# Altium integrated library TI Data Converters Analog to Digital Converter.IntLib: 2197 symbols (part 110 of 168)
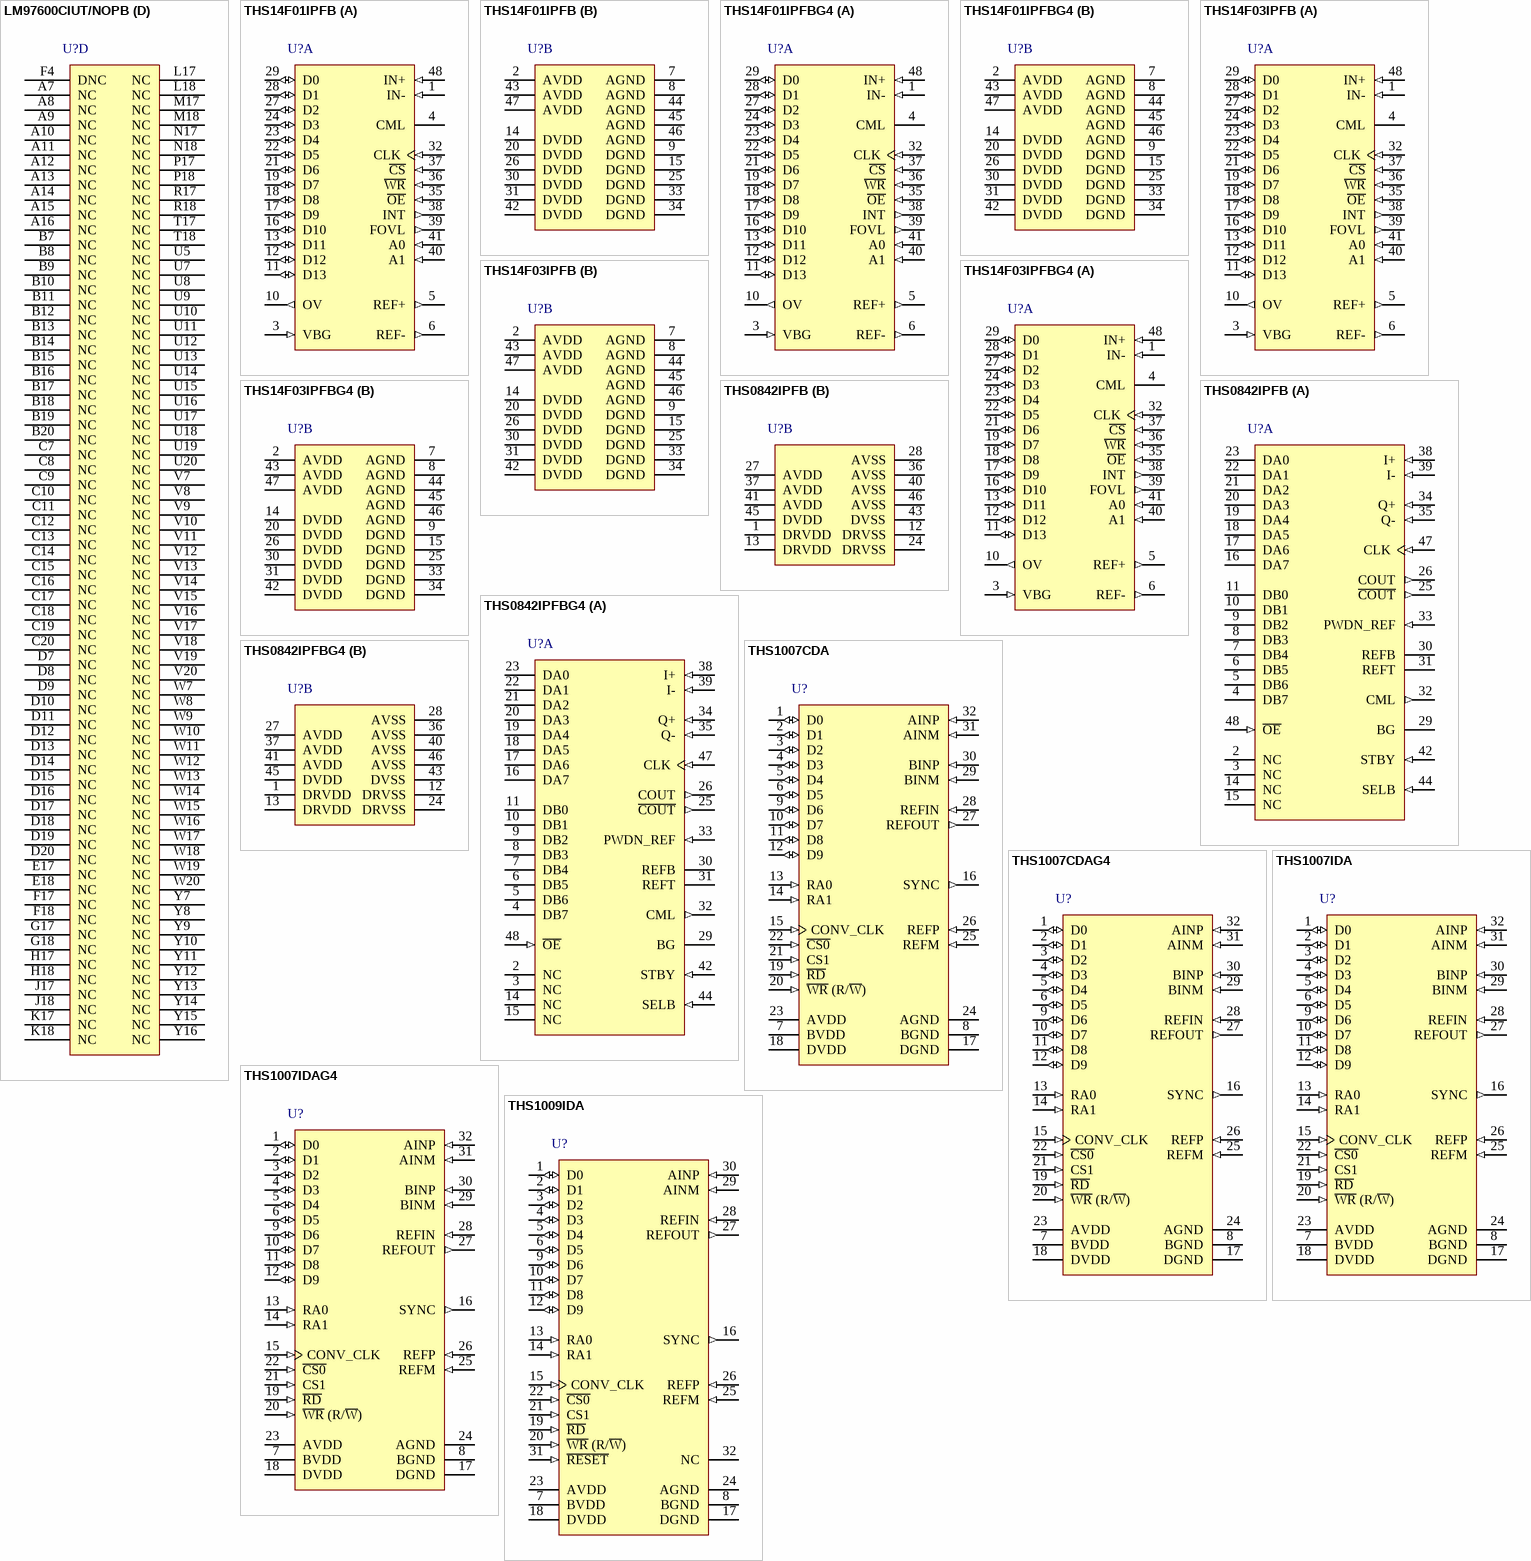
[diagram p235: symbols LM97600CIUT/NOPB to THS1009IDA]

## THS1009IDA
designator U?
10-Bit, 8 MSPS ADC Dual Channel, Parallel DSP / uP, Channel Autoscan, Low Power, -40 to 85 degC, 32-pin SOP (DA32), Green (RoHS & no Sb/Br); Manufacturer: Texas Instruments; PartNumber: THS1009IDA; # Input Channels: 2; Analog Voltage AV/DD(Max)(V): 5.25; Analog Voltage AV/DD(Min)(V): 4.75; Architecture: Pipeline; ENOB(Bits): 9.5; INL(Max)(+/-LSB): 1; Interface: Parallel CMOS; Resolution(Bits): 10; Sample Rate (max)(SPS): 6M; SFDR(dB): 65; SINAD(dB): 59; SNR(dB): 61; SubFamily: Precision ADC (<=10MSPS); DatasheetVersion: SLAS287A; PackageVersion: 4040066/F, 01/2009; PackageReference: DA32; PackageDescription: 32-Pin Plastic Small Outline, Body 11 x 6.1 mm, Pitch 0.65 mm; Supplier 1: Digi-Key; Supplier Part Number 1: ADS6224IRGZR-ND; Supplier 2: Mouser; Supplier Part Number 2: 595-ADS6224IRGZR; Digital Supply(Max)(V): 5.25; Digital Supply(Min)(V): 4.75; Eco-Plan: Green (RoHS & no Sb/Br); Mounting Technology: Surface Mount; Code_JEDEC: MO-225; ComponentLink1Description: Manufacturer URL; ComponentLink1URL: http://www.ti.com/; ComponentLink2Description: Datasheet; ComponentLink2URL: http://www.ti.com/general/docs/lit/getliterature.tsp?genericPartNumber=THS1009&fileType=pdf; ComponentLink3Description: Package Specification; ComponentLink3URL: http://www.ti.com/lit/ml/mtss002e/mtss002e.pdf
footprint TI-DA32_N (SOP, 32-Leads, Body 11x6.1mm, Pitch 0.65mm, IPC Medium Density)
footprint TI-DA32_L (SOP, 32-Leads, Body 11x6.1mm, Pitch 0.65mm, IPC High Density)
footprint TI-DA32_M (SOP, 32-Leads, Body 11x6.1mm, Pitch 0.65mm, IPC Low Density)
pins: 1 D0 (io) "Digital input, output; D0 = LSB", 2 D1 (io) "Digital input, output", 3 D2 (io) "Digital input, output", 4 D3 (io) "Digital input, output", 5 D4 (io) "Digital input, output", 6 D5 (io) "Digital input, output", 7 BVDD (power) "Digital supply voltage for buffer", 8 BGND (power) "Digital ground for buffer", 9 D6 (io) "Digital input, output", 10 D7 (io) "Digital input, output", 11 D8 (io) "Digital input, output", 12 D9 (io) "Digital input, output", 13 RA0 (in) "Digital input. RA0 is used as an address line for the control register. This is required for writing to control register 0 and control register 1.", 14 RA1 (in) "Digital input. RA1 is used as an address line for the control register. This is required for writing to control register 0 and control register 1.", 15 CONV_CLK (in) "Digital input. This input is used to apply an external conversion clock in the continuous conversion mode. In the single conversion mode, this input functions as the conversion start (C\O\N\V\S\T\) input. A high-to-low (See Datasheet)", 16 SYNC (out) "Synchronization output. This signal indicates in a multichannel operation that data of channel A is brought to the digital output and can therefore be used for synchronization.", 17 DGND (power) "Digital ground. Ground reference for digital circuitry.", 18 DVDD (power) "Digital supply voltage", 19 ~{RD} (in) "The R\D\ input is used only if the W\R\ input is configured as a write only input. In this case, it is a digital input, active low as a data read select from the processor. See timing section.", 20 ~{WR} (R/~{W}) (in) "This input is programmable. It functions as a read-write input R/W\ and can also be configured as a write-only input W\R\, which is active low and used as data write select from the processor. In this case, the R\D\ input is (See Datasheet)", 21 CS1 (in) "Chip select input (active high)", 22 ~{CS0} (in) "Chip select input (active low)", 23 AVDD (power) "Analog supply voltage", 24 AGND (power) "Analog ground", 25 REFM (in) "Reference input, requires a bypass capacitor of 10 uF to AGND in order to bypass the internal reference voltage. An external reference voltage at this input can be applied. This option can be programmed through control (See Datasheet)", 26 REFP (in) "Reference input, requires a bypass capacitor of 10 uF to AGND in order to bypass the internal reference voltage. An external reference voltage at this input can be applied. This option can be programmed through control (See Datasheet)", 27 REFOUT (out) "Analog fixed reference output voltage of 2.5 V. Sink and source capability of 250 uA. The reference output requires a capacitor of 10 uF to AGND for filtering and stability.", 28 REFIN (in) "Common-mode reference input for the analog input channels. It is recommended that this pin be connected to the reference output REFOUT.", 29 AINM (in) "Analog input, single-ended or negative input of differential channel A", 30 AINP (in) "Analog input, single-ended or positive input of differential channel A", 31 ~{RESET} (in) "Hardware reset of the THS10082. Sets the control register to default values.", 32 NC "Not connected"

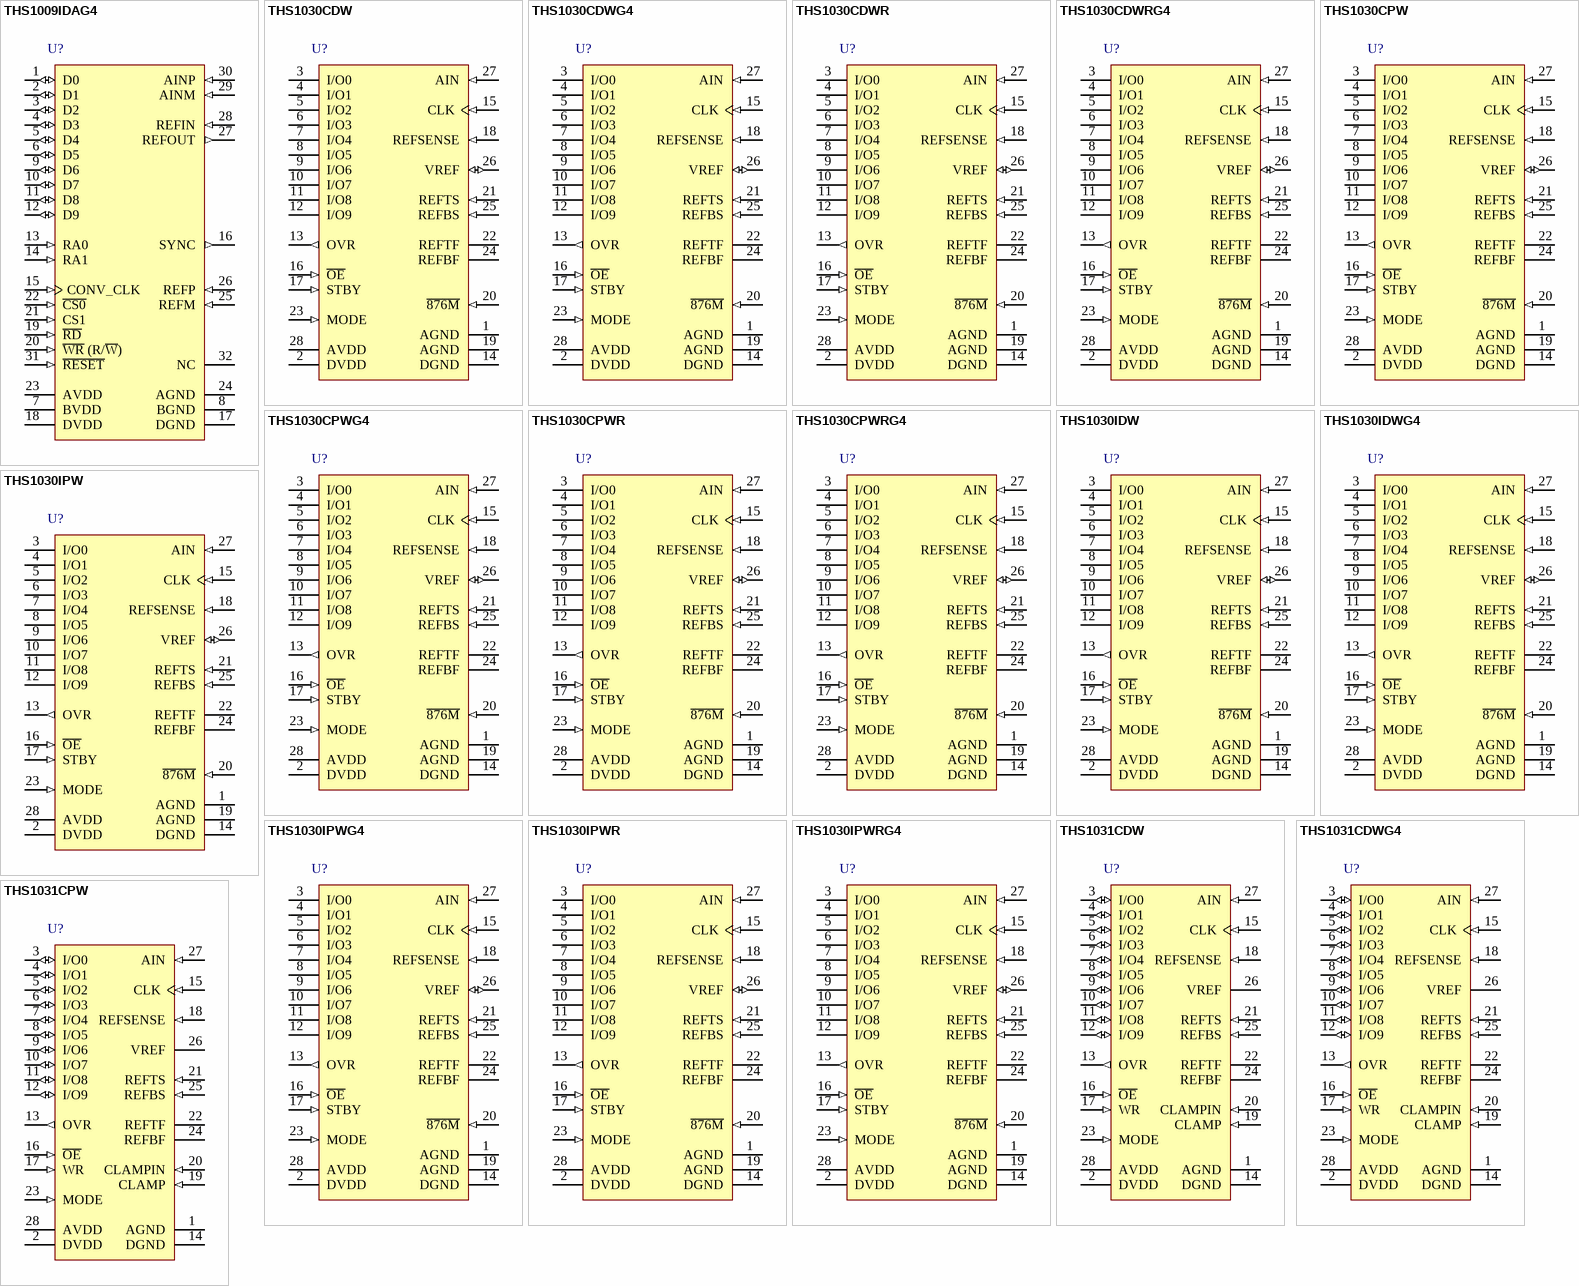
[diagram p94: symbols THS1009IDAG4 to THS1031CPW]

## THS1009IDAG4
designator U?
10-Bit, 8 MSPS ADC Dual Channel, Parallel DSP / uP, Channel Autoscan, Low Power, -40 to 85 degC, 32-pin SOP (DA32), Green (RoHS & no Sb/Br); Manufacturer: Texas Instruments; PartNumber: THS1009IDAG4; # Input Channels: 2; Analog Voltage AV/DD(Max)(V): 5.25; Analog Voltage AV/DD(Min)(V): 4.75; Architecture: Pipeline; ENOB(Bits): 9.5; INL(Max)(+/-LSB): 1; Interface: Parallel CMOS; Resolution(Bits): 10; Sample Rate (max)(SPS): 6M; SFDR(dB): 65; SINAD(dB): 59; SNR(dB): 61; SubFamily: Precision ADC (<=10MSPS); DatasheetVersion: SLAS287A; PackageVersion: 4040066/F, 01/2009; PackageReference: DA32; PackageDescription: 32-Pin Plastic Small Outline, Body 11 x 6.1 mm, Pitch 0.65 mm; Supplier 1: Digi-Key; Supplier Part Number 1: ADS6224IRGZRG4-ND; Supplier 2: Mouser; Supplier Part Number 2: 595-ADS6224IRGZRG4; Digital Supply(Max)(V): 5.25; Digital Supply(Min)(V): 4.75; Eco-Plan: Green (RoHS & no Sb/Br); Mounting Technology: Surface Mount; Code_JEDEC: MO-225; ComponentLink1Description: Manufacturer URL; ComponentLink1URL: http://www.ti.com/; ComponentLink2Description: Datasheet; ComponentLink2URL: http://www.ti.com/general/docs/lit/getliterature.tsp?genericPartNumber=THS1009&fileType=pdf; ComponentLink3Description: Package Specification; ComponentLink3URL: http://www.ti.com/lit/ml/mtss002e/mtss002e.pdf
footprint TI-DA32_N (SOP, 32-Leads, Body 11x6.1mm, Pitch 0.65mm, IPC Medium Density)
footprint TI-DA32_L (SOP, 32-Leads, Body 11x6.1mm, Pitch 0.65mm, IPC High Density)
footprint TI-DA32_M (SOP, 32-Leads, Body 11x6.1mm, Pitch 0.65mm, IPC Low Density)
pins: 1 D0 (io) "Digital input, output; D0 = LSB", 2 D1 (io) "Digital input, output", 3 D2 (io) "Digital input, output", 4 D3 (io) "Digital input, output", 5 D4 (io) "Digital input, output", 6 D5 (io) "Digital input, output", 7 BVDD (power) "Digital supply voltage for buffer", 8 BGND (power) "Digital ground for buffer", 9 D6 (io) "Digital input, output", 10 D7 (io) "Digital input, output", 11 D8 (io) "Digital input, output", 12 D9 (io) "Digital input, output", 13 RA0 (in) "Digital input. RA0 is used as an address line for the control register. This is required for writing to control register 0 and control register 1.", 14 RA1 (in) "Digital input. RA1 is used as an address line for the control register. This is required for writing to control register 0 and control register 1.", 15 CONV_CLK (in) "Digital input. This input is used to apply an external conversion clock in the continuous conversion mode. In the single conversion mode, this input functions as the conversion start (C\O\N\V\S\T\) input. A high-to-low (See Datasheet)", 16 SYNC (out) "Synchronization output. This signal indicates in a multichannel operation that data of channel A is brought to the digital output and can therefore be used for synchronization.", 17 DGND (power) "Digital ground. Ground reference for digital circuitry.", 18 DVDD (power) "Digital supply voltage", 19 ~{RD} (in) "The R\D\ input is used only if the W\R\ input is configured as a write only input. In this case, it is a digital input, active low as a data read select from the processor. See timing section.", 20 ~{WR} (R/~{W}) (in) "This input is programmable. It functions as a read-write input R/W\ and can also be configured as a write-only input W\R\, which is active low and used as data write select from the processor. In this case, the R\D\ input is (See Datasheet)", 21 CS1 (in) "Chip select input (active high)", 22 ~{CS0} (in) "Chip select input (active low)", 23 AVDD (power) "Analog supply voltage", 24 AGND (power) "Analog ground", 25 REFM (in) "Reference input, requires a bypass capacitor of 10 uF to AGND in order to bypass the internal reference voltage. An external reference voltage at this input can be applied. This option can be programmed through control (See Datasheet)", 26 REFP (in) "Reference input, requires a bypass capacitor of 10 uF to AGND in order to bypass the internal reference voltage. An external reference voltage at this input can be applied. This option can be programmed through control (See Datasheet)", 27 REFOUT (out) "Analog fixed reference output voltage of 2.5 V. Sink and source capability of 250 uA. The reference output requires a capacitor of 10 uF to AGND for filtering and stability.", 28 REFIN (in) "Common-mode reference input for the analog input channels. It is recommended that this pin be connected to the reference output REFOUT.", 29 AINM (in) "Analog input, single-ended or negative input of differential channel A", 30 AINP (in) "Analog input, single-ended or positive input of differential channel A", 31 ~{RESET} (in) "Hardware reset of the THS10082. Sets the control register to default values.", 32 NC "Not connected"

## THS1030CDW
designator U?
10-Bit, 30 MSPS ADC Single Channel, Pin Compatible with TLC876, Out of Range Indicator, Power Down, 0 to 70 degC, 28-pin SOIC (DW28), Green (RoHS & no Sb/Br); Manufacturer: Texas Instruments; PartNumber: THS1030CDW; # Input Channels: 1; Analog Voltage AV/DD(Max)(V): 5.5; Analog Voltage AV/DD(Min)(V): 3; Architecture: Pipeline; ENOB(Bits): 7.7; INL(Max)(+/-LSB): 2; Interface: Parallel CMOS; Resolution(Bits): 10; Sample Rate (max)(SPS): 30M; SFDR(dB): 53; SINAD(dB): 48.1; SNR(dB): 49.4; SubFamily: High Speed ADC (>10MSPS); DatasheetVersion: SLAS243E; PackageVersion: 4040000-6/G, 01/2011; PackageReference: DW28; PackageDescription: 28-Pin Plastic Small Outline, Body 17.90 x 7.50 mm, Pitch 1.27 mm; Supplier 1: Digi-Key; Supplier Part Number 1: 296-22666-2-ND; Supplier 2: Digi-Key; Supplier Part Number 2: 296-22666-1-ND; Supplier 3: Farnell; Supplier Part Number 3: 1754718; Supplier 4: Newark; Supplier Part Number 4: 93R5056; Supplier 5: Mouser; Supplier Part Number 5: 595-ADS6224IRGZT; Digital Supply(Max)(V): 5.5; Digital Supply(Min)(V): 3; Eco-Plan: Green (RoHS & no Sb/Br); Mounting Technology: Surface Mount; Code_JEDEC: MS-013; ComponentLink1Description: Manufacturer URL; ComponentLink1URL: http://www.ti.com/; ComponentLink2Description: Datasheet; ComponentLink2URL: http://www.ti.com/general/docs/lit/getliterature.tsp?genericPartNumber=THS1030&fileType=pdf; ComponentLink3Description: Package Specification; ComponentLink3URL: http://www.ti.com/lit/ml/mpds175a/mpds175a.pdf
footprint TI-DW28_N (SOIC, 28-Leads, Body 17.9x7.5mm, Pitch 1.27mm, IPC Medium Density)
footprint TI-DW28_L (SOIC, 28-Leads, Body 17.9x7.5mm, Pitch 1.27mm, IPC High Density)
footprint TI-DW28_M (SOIC, 28-Leads, Body 17.9x7.5mm, Pitch 1.27mm, IPC Low Density)
pins: 1 AGND (power) "Analog ground", 2 DVDD (power) "Digital driver supply", 3 I/O0 (hiz) "Digital I/O bit 0 (LSB)", 4 I/O1 (hiz) "Digital I/O bit 1", 5 I/O2 (hiz) "Digital I/O bit 2", 6 I/O3 (hiz) "Digital I/O bit 3", 7 I/O4 (hiz) "Digital I/O bit 4", 8 I/O5 (hiz) "Digital I/O bit 5", 9 I/O6 (hiz) "Digital I/O bit 6", 10 I/O7 (hiz) "Digital I/O bit 7", 11 I/O8 (hiz) "Digital I/O bit 8", 12 I/O9 (hiz) "Digital I/O bit 9 (MSB)", 13 OVR (out) "Out-of-range indicator", 14 DGND (power) "Digital ground", 15 CLK (in) "Clock input", 16 ~{OE} (in) "High to 3-state the data bus, low to enable the data bus", 17 STBY (in) "High = power-down mode, low = normal operation mode", 18 REFSENSE (in) "Reference sense", 19 AGND (power) "Analog ground", 20 ~{876M} (in) "High = THS1030 mode, low = TLC876 mode (see section 4 for TLC876 mode)", 21 REFTS (in) "Reference top sense", 22 REFTF "Reference top decoupling", 23 MODE (in) "Mode input", 24 REFBF "Reference bottom decoupling", 25 REFBS (in) "Reference bottom sense", 26 VREF (io) "Internal and external reference", 27 AIN (in) "Analog input", 28 AVDD (power) "Analog supply"

## THS1030CDWG4
designator U?
10-Bit, 30 MSPS ADC Single Channel, Pin Compatible with TLC876, Out of Range Indicator, Power Down, 0 to 70 degC, 28-pin SOIC (DW28), Green (RoHS & no Sb/Br); Manufacturer: Texas Instruments; PartNumber: THS1030CDWG4; # Input Channels: 1; Analog Voltage AV/DD(Max)(V): 5.5; Analog Voltage AV/DD(Min)(V): 3; Architecture: Pipeline; ENOB(Bits): 7.7; INL(Max)(+/-LSB): 2; Interface: Parallel CMOS; Resolution(Bits): 10; Sample Rate (max)(SPS): 30M; SFDR(dB): 53; SINAD(dB): 48.1; SNR(dB): 49.4; SubFamily: High Speed ADC (>10MSPS); DatasheetVersion: SLAS243E; PackageVersion: 4040000-6/G, 01/2011; PackageReference: DW28; PackageDescription: 28-Pin Plastic Small Outline, Body 17.90 x 7.50 mm, Pitch 1.27 mm; Supplier 1: Digi-Key; Supplier Part Number 1: ADS6224IRGZTG4-ND; Supplier 2: Mouser; Supplier Part Number 2: 595-ADS6224IRGZTG4; Digital Supply(Max)(V): 5.5; Digital Supply(Min)(V): 3; Eco-Plan: Green (RoHS & no Sb/Br); Mounting Technology: Surface Mount; Code_JEDEC: MS-013; ComponentLink1Description: Manufacturer URL; ComponentLink1URL: http://www.ti.com/; ComponentLink2Description: Datasheet; ComponentLink2URL: http://www.ti.com/general/docs/lit/getliterature.tsp?genericPartNumber=THS1030&fileType=pdf; ComponentLink3Description: Package Specification; ComponentLink3URL: http://www.ti.com/lit/ml/mpds175a/mpds175a.pdf
footprint TI-DW28_N (SOIC, 28-Leads, Body 17.9x7.5mm, Pitch 1.27mm, IPC Medium Density)
footprint TI-DW28_L (SOIC, 28-Leads, Body 17.9x7.5mm, Pitch 1.27mm, IPC High Density)
footprint TI-DW28_M (SOIC, 28-Leads, Body 17.9x7.5mm, Pitch 1.27mm, IPC Low Density)
pins: 1 AGND (power) "Analog ground", 2 DVDD (power) "Digital driver supply", 3 I/O0 (hiz) "Digital I/O bit 0 (LSB)", 4 I/O1 (hiz) "Digital I/O bit 1", 5 I/O2 (hiz) "Digital I/O bit 2", 6 I/O3 (hiz) "Digital I/O bit 3", 7 I/O4 (hiz) "Digital I/O bit 4", 8 I/O5 (hiz) "Digital I/O bit 5", 9 I/O6 (hiz) "Digital I/O bit 6", 10 I/O7 (hiz) "Digital I/O bit 7", 11 I/O8 (hiz) "Digital I/O bit 8", 12 I/O9 (hiz) "Digital I/O bit 9 (MSB)", 13 OVR (out) "Out-of-range indicator", 14 DGND (power) "Digital ground", 15 CLK (in) "Clock input", 16 ~{OE} (in) "High to 3-state the data bus, low to enable the data bus", 17 STBY (in) "High = power-down mode, low = normal operation mode", 18 REFSENSE (in) "Reference sense", 19 AGND (power) "Analog ground", 20 ~{876M} (in) "High = THS1030 mode, low = TLC876 mode (see section 4 for TLC876 mode)", 21 REFTS (in) "Reference top sense", 22 REFTF "Reference top decoupling", 23 MODE (in) "Mode input", 24 REFBF "Reference bottom decoupling", 25 REFBS (in) "Reference bottom sense", 26 VREF (io) "Internal and external reference", 27 AIN (in) "Analog input", 28 AVDD (power) "Analog supply"

## THS1030CDWR
designator U?
10-Bit, 30 MSPS ADC Single Channel, Pin Compatible with TLC876, Out of Range Indicator, Power Down, 0 to 70 degC, 28-pin SOIC (DW28), Green (RoHS & no Sb/Br); Manufacturer: Texas Instruments; PartNumber: THS1030CDWR; # Input Channels: 1; Analog Voltage AV/DD(Max)(V): 5.5; Analog Voltage AV/DD(Min)(V): 3; Architecture: Pipeline; ENOB(Bits): 7.7; INL(Max)(+/-LSB): 2; Interface: Parallel CMOS; Resolution(Bits): 10; Sample Rate (max)(SPS): 30M; SFDR(dB): 53; SINAD(dB): 48.1; SNR(dB): 49.4; SubFamily: High Speed ADC (>10MSPS); DatasheetVersion: SLAS243E; PackageVersion: 4040000-6/G, 01/2011; PackageReference: DW28; PackageDescription: 28-Pin Plastic Small Outline, Body 17.90 x 7.50 mm, Pitch 1.27 mm; Supplier 1: Digi-Key; Supplier Part Number 1: ADS6223IRGZ25-ND; Supplier 2: Mouser; Supplier Part Number 2: 595-ADS6223IRGZ25; Digital Supply(Max)(V): 5.5; Digital Supply(Min)(V): 3; Eco-Plan: Green (RoHS & no Sb/Br); Mounting Technology: Surface Mount; Code_JEDEC: MS-013; ComponentLink1Description: Manufacturer URL; ComponentLink1URL: http://www.ti.com/; ComponentLink2Description: Datasheet; ComponentLink2URL: http://www.ti.com/general/docs/lit/getliterature.tsp?genericPartNumber=THS1030&fileType=pdf; ComponentLink3Description: Package Specification; ComponentLink3URL: http://www.ti.com/lit/ml/mpds175a/mpds175a.pdf
footprint TI-DW28_N (SOIC, 28-Leads, Body 17.9x7.5mm, Pitch 1.27mm, IPC Medium Density)
footprint TI-DW28_L (SOIC, 28-Leads, Body 17.9x7.5mm, Pitch 1.27mm, IPC High Density)
footprint TI-DW28_M (SOIC, 28-Leads, Body 17.9x7.5mm, Pitch 1.27mm, IPC Low Density)
pins: 1 AGND (power) "Analog ground", 2 DVDD (power) "Digital driver supply", 3 I/O0 (hiz) "Digital I/O bit 0 (LSB)", 4 I/O1 (hiz) "Digital I/O bit 1", 5 I/O2 (hiz) "Digital I/O bit 2", 6 I/O3 (hiz) "Digital I/O bit 3", 7 I/O4 (hiz) "Digital I/O bit 4", 8 I/O5 (hiz) "Digital I/O bit 5", 9 I/O6 (hiz) "Digital I/O bit 6", 10 I/O7 (hiz) "Digital I/O bit 7", 11 I/O8 (hiz) "Digital I/O bit 8", 12 I/O9 (hiz) "Digital I/O bit 9 (MSB)", 13 OVR (out) "Out-of-range indicator", 14 DGND (power) "Digital ground", 15 CLK (in) "Clock input", 16 ~{OE} (in) "High to 3-state the data bus, low to enable the data bus", 17 STBY (in) "High = power-down mode, low = normal operation mode", 18 REFSENSE (in) "Reference sense", 19 AGND (power) "Analog ground", 20 ~{876M} (in) "High = THS1030 mode, low = TLC876 mode (see section 4 for TLC876 mode)", 21 REFTS (in) "Reference top sense", 22 REFTF "Reference top decoupling", 23 MODE (in) "Mode input", 24 REFBF "Reference bottom decoupling", 25 REFBS (in) "Reference bottom sense", 26 VREF (io) "Internal and external reference", 27 AIN (in) "Analog input", 28 AVDD (power) "Analog supply"

## THS1030CDWRG4
designator U?
10-Bit, 30 MSPS ADC Single Channel, Pin Compatible with TLC876, Out of Range Indicator, Power Down, 0 to 70 degC, 28-pin SOIC (DW28), Green (RoHS & no Sb/Br); Manufacturer: Texas Instruments; PartNumber: THS1030CDWRG4; # Input Channels: 1; Analog Voltage AV/DD(Max)(V): 5.5; Analog Voltage AV/DD(Min)(V): 3; Architecture: Pipeline; ENOB(Bits): 7.7; INL(Max)(+/-LSB): 2; Interface: Parallel CMOS; Resolution(Bits): 10; Sample Rate (max)(SPS): 30M; SFDR(dB): 53; SINAD(dB): 48.1; SNR(dB): 49.4; SubFamily: High Speed ADC (>10MSPS); DatasheetVersion: SLAS243E; PackageVersion: 4040000-6/G, 01/2011; PackageReference: DW28; PackageDescription: 28-Pin Plastic Small Outline, Body 17.90 x 7.50 mm, Pitch 1.27 mm; Supplier 1: Digi-Key; Supplier Part Number 1: ADS6223IRGZR-ND; Supplier 2: Mouser; Supplier Part Number 2: 595-ADS6223IRGZR; Digital Supply(Max)(V): 5.5; Digital Supply(Min)(V): 3; Eco-Plan: Green (RoHS & no Sb/Br); Mounting Technology: Surface Mount; Code_JEDEC: MS-013; ComponentLink1Description: Manufacturer URL; ComponentLink1URL: http://www.ti.com/; ComponentLink2Description: Datasheet; ComponentLink2URL: http://www.ti.com/general/docs/lit/getliterature.tsp?genericPartNumber=THS1030&fileType=pdf; ComponentLink3Description: Package Specification; ComponentLink3URL: http://www.ti.com/lit/ml/mpds175a/mpds175a.pdf
footprint TI-DW28_N (SOIC, 28-Leads, Body 17.9x7.5mm, Pitch 1.27mm, IPC Medium Density)
footprint TI-DW28_L (SOIC, 28-Leads, Body 17.9x7.5mm, Pitch 1.27mm, IPC High Density)
footprint TI-DW28_M (SOIC, 28-Leads, Body 17.9x7.5mm, Pitch 1.27mm, IPC Low Density)
pins: 1 AGND (power) "Analog ground", 2 DVDD (power) "Digital driver supply", 3 I/O0 (hiz) "Digital I/O bit 0 (LSB)", 4 I/O1 (hiz) "Digital I/O bit 1", 5 I/O2 (hiz) "Digital I/O bit 2", 6 I/O3 (hiz) "Digital I/O bit 3", 7 I/O4 (hiz) "Digital I/O bit 4", 8 I/O5 (hiz) "Digital I/O bit 5", 9 I/O6 (hiz) "Digital I/O bit 6", 10 I/O7 (hiz) "Digital I/O bit 7", 11 I/O8 (hiz) "Digital I/O bit 8", 12 I/O9 (hiz) "Digital I/O bit 9 (MSB)", 13 OVR (out) "Out-of-range indicator", 14 DGND (power) "Digital ground", 15 CLK (in) "Clock input", 16 ~{OE} (in) "High to 3-state the data bus, low to enable the data bus", 17 STBY (in) "High = power-down mode, low = normal operation mode", 18 REFSENSE (in) "Reference sense", 19 AGND (power) "Analog ground", 20 ~{876M} (in) "High = THS1030 mode, low = TLC876 mode (see section 4 for TLC876 mode)", 21 REFTS (in) "Reference top sense", 22 REFTF "Reference top decoupling", 23 MODE (in) "Mode input", 24 REFBF "Reference bottom decoupling", 25 REFBS (in) "Reference bottom sense", 26 VREF (io) "Internal and external reference", 27 AIN (in) "Analog input", 28 AVDD (power) "Analog supply"

## THS1030CPW
designator U?
10-Bit, 30 MSPS ADC Single Channel, Pin Compatible with TLC876, Out of Range Indicator, Power Down, 0 to 70 degC, 28-pin SOP (PW28), Green (RoHS & no Sb/Br); Manufacturer: Texas Instruments; PartNumber: THS1030CPW; # Input Channels: 1; Analog Voltage AV/DD(Max)(V): 5.5; Analog Voltage AV/DD(Min)(V): 3; Architecture: Pipeline; ENOB(Bits): 7.7; INL(Max)(+/-LSB): 2; Interface: Parallel CMOS; Resolution(Bits): 10; Sample Rate (max)(SPS): 30M; SFDR(dB): 53; SINAD(dB): 48.1; SNR(dB): 49.4; SubFamily: High Speed ADC (>10MSPS); DatasheetVersion: SLAS243E; PackageVersion: 4040064-7/G, 02/2011; PackageReference: PW28; PackageDescription: 28-Pin Plastic Small Outline, Body 9.7 x 4.4 mm, Pitch 0.65 mm; Supplier 1: Digi-Key; Supplier Part Number 1: ADS6223IRGZRG4-ND; Supplier 2: Mouser; Supplier Part Number 2: 595-ADS6223IRGZRG4; Digital Supply(Max)(V): 5.5; Digital Supply(Min)(V): 3; Eco-Plan: Green (RoHS & no Sb/Br); Mounting Technology: Surface Mount; Code_JEDEC: MO-153; ComponentLink1Description: Manufacturer URL; ComponentLink1URL: http://www.ti.com/; ComponentLink2Description: Datasheet; ComponentLink2URL: http://www.ti.com/general/docs/lit/getliterature.tsp?genericPartNumber=THS1030&fileType=pdf; ComponentLink3Description: Package Specification; ComponentLink3URL: http://www.ti.com/litv/pdf/mpds364
footprint TI-PW28_N (SOP, 28-Leads, Body 9.7x4.4mm, Pitch 0.65mm, IPC Medium Density)
footprint TI-PW28_L (SOP, 28-Leads, Body 9.7x4.4mm, Pitch 0.65mm, IPC High Density)
footprint TI-PW28_M (SOP, 28-Leads, Body 9.7x4.4mm, Pitch 0.65mm, IPC Low Density)
pins: 1 AGND (power) "Analog ground", 2 DVDD (power) "Digital driver supply", 3 I/O0 (hiz) "Digital I/O bit 0 (LSB)", 4 I/O1 (hiz) "Digital I/O bit 1", 5 I/O2 (hiz) "Digital I/O bit 2", 6 I/O3 (hiz) "Digital I/O bit 3", 7 I/O4 (hiz) "Digital I/O bit 4", 8 I/O5 (hiz) "Digital I/O bit 5", 9 I/O6 (hiz) "Digital I/O bit 6", 10 I/O7 (hiz) "Digital I/O bit 7", 11 I/O8 (hiz) "Digital I/O bit 8", 12 I/O9 (hiz) "Digital I/O bit 9 (MSB)", 13 OVR (out) "Out-of-range indicator", 14 DGND (power) "Digital ground", 15 CLK (in) "Clock input", 16 ~{OE} (in) "High to 3-state the data bus, low to enable the data bus", 17 STBY (in) "High = power-down mode, low = normal operation mode", 18 REFSENSE (in) "Reference sense", 19 AGND (power) "Analog ground", 20 ~{876M} (in) "High = THS1030 mode, low = TLC876 mode (see section 4 for TLC876 mode)", 21 REFTS (in) "Reference top sense", 22 REFTF "Reference top decoupling", 23 MODE (in) "Mode input", 24 REFBF "Reference bottom decoupling", 25 REFBS (in) "Reference bottom sense", 26 VREF (io) "Internal and external reference", 27 AIN (in) "Analog input", 28 AVDD (power) "Analog supply"

## THS1030CPWG4
designator U?
10-Bit, 30 MSPS ADC Single Channel, Pin Compatible with TLC876, Out of Range Indicator, Power Down, 0 to 70 degC, 28-pin SOP (PW28), Green (RoHS & no Sb/Br); Manufacturer: Texas Instruments; PartNumber: THS1030CPWG4; # Input Channels: 1; Analog Voltage AV/DD(Max)(V): 5.5; Analog Voltage AV/DD(Min)(V): 3; Architecture: Pipeline; ENOB(Bits): 7.7; INL(Max)(+/-LSB): 2; Interface: Parallel CMOS; Resolution(Bits): 10; Sample Rate (max)(SPS): 30M; SFDR(dB): 53; SINAD(dB): 48.1; SNR(dB): 49.4; SubFamily: High Speed ADC (>10MSPS); DatasheetVersion: SLAS243E; PackageVersion: 4040064-7/G, 02/2011; PackageReference: PW28; PackageDescription: 28-Pin Plastic Small Outline, Body 9.7 x 4.4 mm, Pitch 0.65 mm; Supplier 1: Digi-Key; Supplier Part Number 1: 296-22665-2-ND; Supplier 2: Digi-Key; Supplier Part Number 2: 296-22665-1-ND; Supplier 3: Digi-Key; Supplier Part Number 3: 296-22665-6-ND; Supplier 4: Farnell; Supplier Part Number 4: 1754717; Supplier 5: Newark; Supplier Part Number 5: 93R5055; Supplier 6: Mouser; Supplier Part Number 6: 595-ADS6223IRGZT; Digital Supply(Max)(V): 5.5; Digital Supply(Min)(V): 3; Eco-Plan: Green (RoHS & no Sb/Br); Mounting Technology: Surface Mount; Code_JEDEC: MO-153; ComponentLink1Description: Manufacturer URL; ComponentLink1URL: http://www.ti.com/; ComponentLink2Description: Datasheet; ComponentLink2URL: http://www.ti.com/general/docs/lit/getliterature.tsp?genericPartNumber=THS1030&fileType=pdf; ComponentLink3Description: Package Specification; ComponentLink3URL: http://www.ti.com/litv/pdf/mpds364
footprint TI-PW28_N (SOP, 28-Leads, Body 9.7x4.4mm, Pitch 0.65mm, IPC Medium Density)
footprint TI-PW28_L (SOP, 28-Leads, Body 9.7x4.4mm, Pitch 0.65mm, IPC High Density)
footprint TI-PW28_M (SOP, 28-Leads, Body 9.7x4.4mm, Pitch 0.65mm, IPC Low Density)
pins: 1 AGND (power) "Analog ground", 2 DVDD (power) "Digital driver supply", 3 I/O0 (hiz) "Digital I/O bit 0 (LSB)", 4 I/O1 (hiz) "Digital I/O bit 1", 5 I/O2 (hiz) "Digital I/O bit 2", 6 I/O3 (hiz) "Digital I/O bit 3", 7 I/O4 (hiz) "Digital I/O bit 4", 8 I/O5 (hiz) "Digital I/O bit 5", 9 I/O6 (hiz) "Digital I/O bit 6", 10 I/O7 (hiz) "Digital I/O bit 7", 11 I/O8 (hiz) "Digital I/O bit 8", 12 I/O9 (hiz) "Digital I/O bit 9 (MSB)", 13 OVR (out) "Out-of-range indicator", 14 DGND (power) "Digital ground", 15 CLK (in) "Clock input", 16 ~{OE} (in) "High to 3-state the data bus, low to enable the data bus", 17 STBY (in) "High = power-down mode, low = normal operation mode", 18 REFSENSE (in) "Reference sense", 19 AGND (power) "Analog ground", 20 ~{876M} (in) "High = THS1030 mode, low = TLC876 mode (see section 4 for TLC876 mode)", 21 REFTS (in) "Reference top sense", 22 REFTF "Reference top decoupling", 23 MODE (in) "Mode input", 24 REFBF "Reference bottom decoupling", 25 REFBS (in) "Reference bottom sense", 26 VREF (io) "Internal and external reference", 27 AIN (in) "Analog input", 28 AVDD (power) "Analog supply"

## THS1030CPWR
designator U?
10-Bit, 30 MSPS ADC Single Channel, Pin Compatible with TLC876, Out of Range Indicator, Power Down, 0 to 70 degC, 28-pin SOP (PW28), Green (RoHS & no Sb/Br); Manufacturer: Texas Instruments; PartNumber: THS1030CPWR; # Input Channels: 1; Analog Voltage AV/DD(Max)(V): 5.5; Analog Voltage AV/DD(Min)(V): 3; Architecture: Pipeline; ENOB(Bits): 7.7; INL(Max)(+/-LSB): 2; Interface: Parallel CMOS; Resolution(Bits): 10; Sample Rate (max)(SPS): 30M; SFDR(dB): 53; SINAD(dB): 48.1; SNR(dB): 49.4; SubFamily: High Speed ADC (>10MSPS); DatasheetVersion: SLAS243E; PackageVersion: 4040064-7/G, 02/2011; PackageReference: PW28; PackageDescription: 28-Pin Plastic Small Outline, Body 9.7 x 4.4 mm, Pitch 0.65 mm; Supplier 1: Digi-Key; Supplier Part Number 1: ADS6223IRGZTG4-ND; Supplier 2: Mouser; Supplier Part Number 2: 595-ADS6223IRGZTG4; Digital Supply(Max)(V): 5.5; Digital Supply(Min)(V): 3; Eco-Plan: Green (RoHS & no Sb/Br); Mounting Technology: Surface Mount; Code_JEDEC: MO-153; ComponentLink1Description: Manufacturer URL; ComponentLink1URL: http://www.ti.com/; ComponentLink2Description: Datasheet; ComponentLink2URL: http://www.ti.com/general/docs/lit/getliterature.tsp?genericPartNumber=THS1030&fileType=pdf; ComponentLink3Description: Package Specification; ComponentLink3URL: http://www.ti.com/litv/pdf/mpds364
footprint TI-PW28_N (SOP, 28-Leads, Body 9.7x4.4mm, Pitch 0.65mm, IPC Medium Density)
footprint TI-PW28_L (SOP, 28-Leads, Body 9.7x4.4mm, Pitch 0.65mm, IPC High Density)
footprint TI-PW28_M (SOP, 28-Leads, Body 9.7x4.4mm, Pitch 0.65mm, IPC Low Density)
pins: 1 AGND (power) "Analog ground", 2 DVDD (power) "Digital driver supply", 3 I/O0 (hiz) "Digital I/O bit 0 (LSB)", 4 I/O1 (hiz) "Digital I/O bit 1", 5 I/O2 (hiz) "Digital I/O bit 2", 6 I/O3 (hiz) "Digital I/O bit 3", 7 I/O4 (hiz) "Digital I/O bit 4", 8 I/O5 (hiz) "Digital I/O bit 5", 9 I/O6 (hiz) "Digital I/O bit 6", 10 I/O7 (hiz) "Digital I/O bit 7", 11 I/O8 (hiz) "Digital I/O bit 8", 12 I/O9 (hiz) "Digital I/O bit 9 (MSB)", 13 OVR (out) "Out-of-range indicator", 14 DGND (power) "Digital ground", 15 CLK (in) "Clock input", 16 ~{OE} (in) "High to 3-state the data bus, low to enable the data bus", 17 STBY (in) "High = power-down mode, low = normal operation mode", 18 REFSENSE (in) "Reference sense", 19 AGND (power) "Analog ground", 20 ~{876M} (in) "High = THS1030 mode, low = TLC876 mode (see section 4 for TLC876 mode)", 21 REFTS (in) "Reference top sense", 22 REFTF "Reference top decoupling", 23 MODE (in) "Mode input", 24 REFBF "Reference bottom decoupling", 25 REFBS (in) "Reference bottom sense", 26 VREF (io) "Internal and external reference", 27 AIN (in) "Analog input", 28 AVDD (power) "Analog supply"

## THS1030CPWRG4
designator U?
10-Bit, 30 MSPS ADC Single Channel, Pin Compatible with TLC876, Out of Range Indicator, Power Down, 0 to 70 degC, 28-pin SOP (PW28), Green (RoHS & no Sb/Br); Manufacturer: Texas Instruments; PartNumber: THS1030CPWRG4; # Input Channels: 1; Analog Voltage AV/DD(Max)(V): 5.5; Analog Voltage AV/DD(Min)(V): 3; Architecture: Pipeline; ENOB(Bits): 7.7; INL(Max)(+/-LSB): 2; Interface: Parallel CMOS; Resolution(Bits): 10; Sample Rate (max)(SPS): 30M; SFDR(dB): 53; SINAD(dB): 48.1; SNR(dB): 49.4; SubFamily: High Speed ADC (>10MSPS); DatasheetVersion: SLAS243E; PackageVersion: 4040064-7/G, 02/2011; PackageReference: PW28; PackageDescription: 28-Pin Plastic Small Outline, Body 9.7 x 4.4 mm, Pitch 0.65 mm; Supplier 1: Digi-Key; Supplier Part Number 1: ADS5562IRGZ25-ND; Supplier 2: Mouser; Supplier Part Number 2: 595-ADS5562IRGZ25; Digital Supply(Max)(V): 5.5; Digital Supply(Min)(V): 3; Eco-Plan: Green (RoHS & no Sb/Br); Mounting Technology: Surface Mount; Code_JEDEC: MO-153; ComponentLink1Description: Manufacturer URL; ComponentLink1URL: http://www.ti.com/; ComponentLink2Description: Datasheet; ComponentLink2URL: http://www.ti.com/general/docs/lit/getliterature.tsp?genericPartNumber=THS1030&fileType=pdf; ComponentLink3Description: Package Specification; ComponentLink3URL: http://www.ti.com/litv/pdf/mpds364
footprint TI-PW28_N (SOP, 28-Leads, Body 9.7x4.4mm, Pitch 0.65mm, IPC Medium Density)
footprint TI-PW28_L (SOP, 28-Leads, Body 9.7x4.4mm, Pitch 0.65mm, IPC High Density)
footprint TI-PW28_M (SOP, 28-Leads, Body 9.7x4.4mm, Pitch 0.65mm, IPC Low Density)
pins: 1 AGND (power) "Analog ground", 2 DVDD (power) "Digital driver supply", 3 I/O0 (hiz) "Digital I/O bit 0 (LSB)", 4 I/O1 (hiz) "Digital I/O bit 1", 5 I/O2 (hiz) "Digital I/O bit 2", 6 I/O3 (hiz) "Digital I/O bit 3", 7 I/O4 (hiz) "Digital I/O bit 4", 8 I/O5 (hiz) "Digital I/O bit 5", 9 I/O6 (hiz) "Digital I/O bit 6", 10 I/O7 (hiz) "Digital I/O bit 7", 11 I/O8 (hiz) "Digital I/O bit 8", 12 I/O9 (hiz) "Digital I/O bit 9 (MSB)", 13 OVR (out) "Out-of-range indicator", 14 DGND (power) "Digital ground", 15 CLK (in) "Clock input", 16 ~{OE} (in) "High to 3-state the data bus, low to enable the data bus", 17 STBY (in) "High = power-down mode, low = normal operation mode", 18 REFSENSE (in) "Reference sense", 19 AGND (power) "Analog ground", 20 ~{876M} (in) "High = THS1030 mode, low = TLC876 mode (see section 4 for TLC876 mode)", 21 REFTS (in) "Reference top sense", 22 REFTF "Reference top decoupling", 23 MODE (in) "Mode input", 24 REFBF "Reference bottom decoupling", 25 REFBS (in) "Reference bottom sense", 26 VREF (io) "Internal and external reference", 27 AIN (in) "Analog input", 28 AVDD (power) "Analog supply"

## THS1030IDW
designator U?
10-Bit, 30 MSPS ADC Single Channel, Pin Compatible with TLC876, Out of Range Indicator, Power Down, -40 to 85 degC, 28-pin SOIC (DW28), Green (RoHS & no Sb/Br); Manufacturer: Texas Instruments; PartNumber: THS1030IDW; # Input Channels: 1; Analog Voltage AV/DD(Max)(V): 5.5; Analog Voltage AV/DD(Min)(V): 3; Architecture: Pipeline; ENOB(Bits): 7.7; INL(Max)(+/-LSB): 2; Interface: Parallel CMOS; Resolution(Bits): 10; Sample Rate (max)(SPS): 30M; SFDR(dB): 53; SINAD(dB): 48.1; SNR(dB): 49.4; SubFamily: High Speed ADC (>10MSPS); DatasheetVersion: SLAS243E; PackageVersion: 4040000-6/G, 01/2011; PackageReference: DW28; PackageDescription: 28-Pin Plastic Small Outline, Body 17.90 x 7.50 mm, Pitch 1.27 mm; Supplier 1: Digi-Key; Supplier Part Number 1: ADS5562IRGZR-ND; Supplier 2: Mouser; Supplier Part Number 2: 595-ADS5562IRGZR; Digital Supply(Max)(V): 5.5; Digital Supply(Min)(V): 3; Eco-Plan: Green (RoHS & no Sb/Br); Mounting Technology: Surface Mount; Code_JEDEC: MS-013; ComponentLink1Description: Manufacturer URL; ComponentLink1URL: http://www.ti.com/; ComponentLink2Description: Datasheet; ComponentLink2URL: http://www.ti.com/general/docs/lit/getliterature.tsp?genericPartNumber=THS1030&fileType=pdf; ComponentLink3Description: Package Specification; ComponentLink3URL: http://www.ti.com/lit/ml/mpds175a/mpds175a.pdf
footprint TI-DW28_N (SOIC, 28-Leads, Body 17.9x7.5mm, Pitch 1.27mm, IPC Medium Density)
footprint TI-DW28_L (SOIC, 28-Leads, Body 17.9x7.5mm, Pitch 1.27mm, IPC High Density)
footprint TI-DW28_M (SOIC, 28-Leads, Body 17.9x7.5mm, Pitch 1.27mm, IPC Low Density)
pins: 1 AGND (power) "Analog ground", 2 DVDD (power) "Digital driver supply", 3 I/O0 (hiz) "Digital I/O bit 0 (LSB)", 4 I/O1 (hiz) "Digital I/O bit 1", 5 I/O2 (hiz) "Digital I/O bit 2", 6 I/O3 (hiz) "Digital I/O bit 3", 7 I/O4 (hiz) "Digital I/O bit 4", 8 I/O5 (hiz) "Digital I/O bit 5", 9 I/O6 (hiz) "Digital I/O bit 6", 10 I/O7 (hiz) "Digital I/O bit 7", 11 I/O8 (hiz) "Digital I/O bit 8", 12 I/O9 (hiz) "Digital I/O bit 9 (MSB)", 13 OVR (out) "Out-of-range indicator", 14 DGND (power) "Digital ground", 15 CLK (in) "Clock input", 16 ~{OE} (in) "High to 3-state the data bus, low to enable the data bus", 17 STBY (in) "High = power-down mode, low = normal operation mode", 18 REFSENSE (in) "Reference sense", 19 AGND (power) "Analog ground", 20 ~{876M} (in) "High = THS1030 mode, low = TLC876 mode (see section 4 for TLC876 mode)", 21 REFTS (in) "Reference top sense", 22 REFTF "Reference top decoupling", 23 MODE (in) "Mode input", 24 REFBF "Reference bottom decoupling", 25 REFBS (in) "Reference bottom sense", 26 VREF (io) "Internal and external reference", 27 AIN (in) "Analog input", 28 AVDD (power) "Analog supply"

## THS1030IDWG4
designator U?
10-Bit, 30 MSPS ADC Single Channel, Pin Compatible with TLC876, Out of Range Indicator, Power Down, -40 to 85 degC, 28-pin SOIC (DW28), Green (RoHS & no Sb/Br); Manufacturer: Texas Instruments; PartNumber: THS1030IDWG4; # Input Channels: 1; Analog Voltage AV/DD(Max)(V): 5.5; Analog Voltage AV/DD(Min)(V): 3; Architecture: Pipeline; ENOB(Bits): 7.7; INL(Max)(+/-LSB): 2; Interface: Parallel CMOS; Resolution(Bits): 10; Sample Rate (max)(SPS): 30M; SFDR(dB): 53; SINAD(dB): 48.1; SNR(dB): 49.4; SubFamily: High Speed ADC (>10MSPS); DatasheetVersion: SLAS243E; PackageVersion: 4040000-6/G, 01/2011; PackageReference: DW28; PackageDescription: 28-Pin Plastic Small Outline, Body 17.90 x 7.50 mm, Pitch 1.27 mm; Supplier 1: Digi-Key; Supplier Part Number 1: ADS5562IRGZRG4-ND; Supplier 2: Mouser; Supplier Part Number 2: 595-ADS5562IRGZRG4; Digital Supply(Max)(V): 5.5; Digital Supply(Min)(V): 3; Eco-Plan: Green (RoHS & no Sb/Br); Mounting Technology: Surface Mount; Code_JEDEC: MS-013; ComponentLink1Description: Manufacturer URL; ComponentLink1URL: http://www.ti.com/; ComponentLink2Description: Datasheet; ComponentLink2URL: http://www.ti.com/general/docs/lit/getliterature.tsp?genericPartNumber=THS1030&fileType=pdf; ComponentLink3Description: Package Specification; ComponentLink3URL: http://www.ti.com/lit/ml/mpds175a/mpds175a.pdf
footprint TI-DW28_N (SOIC, 28-Leads, Body 17.9x7.5mm, Pitch 1.27mm, IPC Medium Density)
footprint TI-DW28_L (SOIC, 28-Leads, Body 17.9x7.5mm, Pitch 1.27mm, IPC High Density)
footprint TI-DW28_M (SOIC, 28-Leads, Body 17.9x7.5mm, Pitch 1.27mm, IPC Low Density)
pins: 1 AGND (power) "Analog ground", 2 DVDD (power) "Digital driver supply", 3 I/O0 (hiz) "Digital I/O bit 0 (LSB)", 4 I/O1 (hiz) "Digital I/O bit 1", 5 I/O2 (hiz) "Digital I/O bit 2", 6 I/O3 (hiz) "Digital I/O bit 3", 7 I/O4 (hiz) "Digital I/O bit 4", 8 I/O5 (hiz) "Digital I/O bit 5", 9 I/O6 (hiz) "Digital I/O bit 6", 10 I/O7 (hiz) "Digital I/O bit 7", 11 I/O8 (hiz) "Digital I/O bit 8", 12 I/O9 (hiz) "Digital I/O bit 9 (MSB)", 13 OVR (out) "Out-of-range indicator", 14 DGND (power) "Digital ground", 15 CLK (in) "Clock input", 16 ~{OE} (in) "High to 3-state the data bus, low to enable the data bus", 17 STBY (in) "High = power-down mode, low = normal operation mode", 18 REFSENSE (in) "Reference sense", 19 AGND (power) "Analog ground", 20 ~{876M} (in) "High = THS1030 mode, low = TLC876 mode (see section 4 for TLC876 mode)", 21 REFTS (in) "Reference top sense", 22 REFTF "Reference top decoupling", 23 MODE (in) "Mode input", 24 REFBF "Reference bottom decoupling", 25 REFBS (in) "Reference bottom sense", 26 VREF (io) "Internal and external reference", 27 AIN (in) "Analog input", 28 AVDD (power) "Analog supply"

## THS1030IPW
designator U?
10-Bit, 30 MSPS ADC Single Channel, Pin Compatible with TLC876, Out of Range Indicator, Power Down, -40 to 85 degC, 28-pin SOP (PW28), Green (RoHS & no Sb/Br); Manufacturer: Texas Instruments; PartNumber: THS1030IPW; # Input Channels: 1; Analog Voltage AV/DD(Max)(V): 5.5; Analog Voltage AV/DD(Min)(V): 3; Architecture: Pipeline; ENOB(Bits): 7.7; INL(Max)(+/-LSB): 2; Interface: Parallel CMOS; Resolution(Bits): 10; Sample Rate (max)(SPS): 30M; SFDR(dB): 53; SINAD(dB): 48.1; SNR(dB): 49.4; SubFamily: High Speed ADC (>10MSPS); DatasheetVersion: SLAS243E; PackageVersion: 4040064-7/G, 02/2011; PackageReference: PW28; PackageDescription: 28-Pin Plastic Small Outline, Body 9.7 x 4.4 mm, Pitch 0.65 mm; Supplier 1: Digi-Key; Supplier Part Number 1: 296-23419-2-ND; Supplier 2: Digi-Key; Supplier Part Number 2: 296-23419-1-ND; Supplier 3: Digi-Key; Supplier Part Number 3: 296-23419-6-ND; Supplier 4: Farnell; Supplier Part Number 4: 1754706; Supplier 5: Newark; Supplier Part Number 5: 08N5343; Supplier 6: Mouser; Supplier Part Number 6: 595-ADS5562IRGZT; Digital Supply(Max)(V): 5.5; Digital Supply(Min)(V): 3; Eco-Plan: Green (RoHS & no Sb/Br); Mounting Technology: Surface Mount; Code_JEDEC: MO-153; ComponentLink1Description: Manufacturer URL; ComponentLink1URL: http://www.ti.com/; ComponentLink2Description: Datasheet; ComponentLink2URL: http://www.ti.com/general/docs/lit/getliterature.tsp?genericPartNumber=THS1030&fileType=pdf; ComponentLink3Description: Package Specification; ComponentLink3URL: http://www.ti.com/litv/pdf/mpds364
footprint TI-PW28_N (SOP, 28-Leads, Body 9.7x4.4mm, Pitch 0.65mm, IPC Medium Density)
footprint TI-PW28_L (SOP, 28-Leads, Body 9.7x4.4mm, Pitch 0.65mm, IPC High Density)
footprint TI-PW28_M (SOP, 28-Leads, Body 9.7x4.4mm, Pitch 0.65mm, IPC Low Density)
pins: 1 AGND (power) "Analog ground", 2 DVDD (power) "Digital driver supply", 3 I/O0 (hiz) "Digital I/O bit 0 (LSB)", 4 I/O1 (hiz) "Digital I/O bit 1", 5 I/O2 (hiz) "Digital I/O bit 2", 6 I/O3 (hiz) "Digital I/O bit 3", 7 I/O4 (hiz) "Digital I/O bit 4", 8 I/O5 (hiz) "Digital I/O bit 5", 9 I/O6 (hiz) "Digital I/O bit 6", 10 I/O7 (hiz) "Digital I/O bit 7", 11 I/O8 (hiz) "Digital I/O bit 8", 12 I/O9 (hiz) "Digital I/O bit 9 (MSB)", 13 OVR (out) "Out-of-range indicator", 14 DGND (power) "Digital ground", 15 CLK (in) "Clock input", 16 ~{OE} (in) "High to 3-state the data bus, low to enable the data bus", 17 STBY (in) "High = power-down mode, low = normal operation mode", 18 REFSENSE (in) "Reference sense", 19 AGND (power) "Analog ground", 20 ~{876M} (in) "High = THS1030 mode, low = TLC876 mode (see section 4 for TLC876 mode)", 21 REFTS (in) "Reference top sense", 22 REFTF "Reference top decoupling", 23 MODE (in) "Mode input", 24 REFBF "Reference bottom decoupling", 25 REFBS (in) "Reference bottom sense", 26 VREF (io) "Internal and external reference", 27 AIN (in) "Analog input", 28 AVDD (power) "Analog supply"

## THS1030IPWG4
designator U?
10-Bit, 30 MSPS ADC Single Channel, Pin Compatible with TLC876, Out of Range Indicator, Power Down, -40 to 85 degC, 28-pin SOP (PW28), Green (RoHS & no Sb/Br); Manufacturer: Texas Instruments; PartNumber: THS1030IPWG4; # Input Channels: 1; Analog Voltage AV/DD(Max)(V): 5.5; Analog Voltage AV/DD(Min)(V): 3; Architecture: Pipeline; ENOB(Bits): 7.7; INL(Max)(+/-LSB): 2; Interface: Parallel CMOS; Resolution(Bits): 10; Sample Rate (max)(SPS): 30M; SFDR(dB): 53; SINAD(dB): 48.1; SNR(dB): 49.4; SubFamily: High Speed ADC (>10MSPS); DatasheetVersion: SLAS243E; PackageVersion: 4040064-7/G, 02/2011; PackageReference: PW28; PackageDescription: 28-Pin Plastic Small Outline, Body 9.7 x 4.4 mm, Pitch 0.65 mm; Supplier 1: Digi-Key; Supplier Part Number 1: ADS5562IRGZTG4-ND; Supplier 2: Mouser; Supplier Part Number 2: 595-ADS5562IRGZTG4; Digital Supply(Max)(V): 5.5; Digital Supply(Min)(V): 3; Eco-Plan: Green (RoHS & no Sb/Br); Mounting Technology: Surface Mount; Code_JEDEC: MO-153; ComponentLink1Description: Manufacturer URL; ComponentLink1URL: http://www.ti.com/; ComponentLink2Description: Datasheet; ComponentLink2URL: http://www.ti.com/general/docs/lit/getliterature.tsp?genericPartNumber=THS1030&fileType=pdf; ComponentLink3Description: Package Specification; ComponentLink3URL: http://www.ti.com/litv/pdf/mpds364
footprint TI-PW28_N (SOP, 28-Leads, Body 9.7x4.4mm, Pitch 0.65mm, IPC Medium Density)
footprint TI-PW28_L (SOP, 28-Leads, Body 9.7x4.4mm, Pitch 0.65mm, IPC High Density)
footprint TI-PW28_M (SOP, 28-Leads, Body 9.7x4.4mm, Pitch 0.65mm, IPC Low Density)
pins: 1 AGND (power) "Analog ground", 2 DVDD (power) "Digital driver supply", 3 I/O0 (hiz) "Digital I/O bit 0 (LSB)", 4 I/O1 (hiz) "Digital I/O bit 1", 5 I/O2 (hiz) "Digital I/O bit 2", 6 I/O3 (hiz) "Digital I/O bit 3", 7 I/O4 (hiz) "Digital I/O bit 4", 8 I/O5 (hiz) "Digital I/O bit 5", 9 I/O6 (hiz) "Digital I/O bit 6", 10 I/O7 (hiz) "Digital I/O bit 7", 11 I/O8 (hiz) "Digital I/O bit 8", 12 I/O9 (hiz) "Digital I/O bit 9 (MSB)", 13 OVR (out) "Out-of-range indicator", 14 DGND (power) "Digital ground", 15 CLK (in) "Clock input", 16 ~{OE} (in) "High to 3-state the data bus, low to enable the data bus", 17 STBY (in) "High = power-down mode, low = normal operation mode", 18 REFSENSE (in) "Reference sense", 19 AGND (power) "Analog ground", 20 ~{876M} (in) "High = THS1030 mode, low = TLC876 mode (see section 4 for TLC876 mode)", 21 REFTS (in) "Reference top sense", 22 REFTF "Reference top decoupling", 23 MODE (in) "Mode input", 24 REFBF "Reference bottom decoupling", 25 REFBS (in) "Reference bottom sense", 26 VREF (io) "Internal and external reference", 27 AIN (in) "Analog input", 28 AVDD (power) "Analog supply"

## THS1030IPWR
designator U?
10-Bit, 30 MSPS ADC Single Channel, Pin Compatible with TLC876, Out of Range Indicator, Power Down, -40 to 85 degC, 28-pin SOP (PW28), Green (RoHS & no Sb/Br); Manufacturer: Texas Instruments; PartNumber: THS1030IPWR; # Input Channels: 1; Analog Voltage AV/DD(Max)(V): 5.5; Analog Voltage AV/DD(Min)(V): 3; Architecture: Pipeline; ENOB(Bits): 7.7; INL(Max)(+/-LSB): 2; Interface: Parallel CMOS; Resolution(Bits): 10; Sample Rate (max)(SPS): 30M; SFDR(dB): 53; SINAD(dB): 48.1; SNR(dB): 49.4; SubFamily: High Speed ADC (>10MSPS); DatasheetVersion: SLAS243E; PackageVersion: 4040064-7/G, 02/2011; PackageReference: PW28; PackageDescription: 28-Pin Plastic Small Outline, Body 9.7 x 4.4 mm, Pitch 0.65 mm; Supplier 1: Digi-Key; Supplier Part Number 1: ADS6222IRGZ25-ND; Supplier 2: Mouser; Supplier Part Number 2: 595-ADS6222IRGZ25; Digital Supply(Max)(V): 5.5; Digital Supply(Min)(V): 3; Eco-Plan: Green (RoHS & no Sb/Br); Mounting Technology: Surface Mount; Code_JEDEC: MO-153; ComponentLink1Description: Manufacturer URL; ComponentLink1URL: http://www.ti.com/; ComponentLink2Description: Datasheet; ComponentLink2URL: http://www.ti.com/general/docs/lit/getliterature.tsp?genericPartNumber=THS1030&fileType=pdf; ComponentLink3Description: Package Specification; ComponentLink3URL: http://www.ti.com/litv/pdf/mpds364
footprint TI-PW28_N (SOP, 28-Leads, Body 9.7x4.4mm, Pitch 0.65mm, IPC Medium Density)
footprint TI-PW28_L (SOP, 28-Leads, Body 9.7x4.4mm, Pitch 0.65mm, IPC High Density)
footprint TI-PW28_M (SOP, 28-Leads, Body 9.7x4.4mm, Pitch 0.65mm, IPC Low Density)
pins: 1 AGND (power) "Analog ground", 2 DVDD (power) "Digital driver supply", 3 I/O0 (hiz) "Digital I/O bit 0 (LSB)", 4 I/O1 (hiz) "Digital I/O bit 1", 5 I/O2 (hiz) "Digital I/O bit 2", 6 I/O3 (hiz) "Digital I/O bit 3", 7 I/O4 (hiz) "Digital I/O bit 4", 8 I/O5 (hiz) "Digital I/O bit 5", 9 I/O6 (hiz) "Digital I/O bit 6", 10 I/O7 (hiz) "Digital I/O bit 7", 11 I/O8 (hiz) "Digital I/O bit 8", 12 I/O9 (hiz) "Digital I/O bit 9 (MSB)", 13 OVR (out) "Out-of-range indicator", 14 DGND (power) "Digital ground", 15 CLK (in) "Clock input", 16 ~{OE} (in) "High to 3-state the data bus, low to enable the data bus", 17 STBY (in) "High = power-down mode, low = normal operation mode", 18 REFSENSE (in) "Reference sense", 19 AGND (power) "Analog ground", 20 ~{876M} (in) "High = THS1030 mode, low = TLC876 mode (see section 4 for TLC876 mode)", 21 REFTS (in) "Reference top sense", 22 REFTF "Reference top decoupling", 23 MODE (in) "Mode input", 24 REFBF "Reference bottom decoupling", 25 REFBS (in) "Reference bottom sense", 26 VREF (io) "Internal and external reference", 27 AIN (in) "Analog input", 28 AVDD (power) "Analog supply"

## THS1030IPWRG4
designator U?
10-Bit, 30 MSPS ADC Single Channel, Pin Compatible with TLC876, Out of Range Indicator, Power Down, -40 to 85 degC, 28-pin SOP (PW28), Green (RoHS & no Sb/Br); Manufacturer: Texas Instruments; PartNumber: THS1030IPWRG4; # Input Channels: 1; Analog Voltage AV/DD(Max)(V): 5.5; Analog Voltage AV/DD(Min)(V): 3; Architecture: Pipeline; ENOB(Bits): 7.7; INL(Max)(+/-LSB): 2; Interface: Parallel CMOS; Resolution(Bits): 10; Sample Rate (max)(SPS): 30M; SFDR(dB): 53; SINAD(dB): 48.1; SNR(dB): 49.4; SubFamily: High Speed ADC (>10MSPS); DatasheetVersion: SLAS243E; PackageVersion: 4040064-7/G, 02/2011; PackageReference: PW28; PackageDescription: 28-Pin Plastic Small Outline, Body 9.7 x 4.4 mm, Pitch 0.65 mm; Supplier 1: Digi-Key; Supplier Part Number 1: ADS6222IRGZR-ND; Supplier 2: Mouser; Supplier Part Number 2: 595-ADS6222IRGZR; Digital Supply(Max)(V): 5.5; Digital Supply(Min)(V): 3; Eco-Plan: Green (RoHS & no Sb/Br); Mounting Technology: Surface Mount; Code_JEDEC: MO-153; ComponentLink1Description: Manufacturer URL; ComponentLink1URL: http://www.ti.com/; ComponentLink2Description: Datasheet; ComponentLink2URL: http://www.ti.com/general/docs/lit/getliterature.tsp?genericPartNumber=THS1030&fileType=pdf; ComponentLink3Description: Package Specification; ComponentLink3URL: http://www.ti.com/litv/pdf/mpds364
footprint TI-PW28_N (SOP, 28-Leads, Body 9.7x4.4mm, Pitch 0.65mm, IPC Medium Density)
footprint TI-PW28_L (SOP, 28-Leads, Body 9.7x4.4mm, Pitch 0.65mm, IPC High Density)
footprint TI-PW28_M (SOP, 28-Leads, Body 9.7x4.4mm, Pitch 0.65mm, IPC Low Density)
pins: 1 AGND (power) "Analog ground", 2 DVDD (power) "Digital driver supply", 3 I/O0 (hiz) "Digital I/O bit 0 (LSB)", 4 I/O1 (hiz) "Digital I/O bit 1", 5 I/O2 (hiz) "Digital I/O bit 2", 6 I/O3 (hiz) "Digital I/O bit 3", 7 I/O4 (hiz) "Digital I/O bit 4", 8 I/O5 (hiz) "Digital I/O bit 5", 9 I/O6 (hiz) "Digital I/O bit 6", 10 I/O7 (hiz) "Digital I/O bit 7", 11 I/O8 (hiz) "Digital I/O bit 8", 12 I/O9 (hiz) "Digital I/O bit 9 (MSB)", 13 OVR (out) "Out-of-range indicator", 14 DGND (power) "Digital ground", 15 CLK (in) "Clock input", 16 ~{OE} (in) "High to 3-state the data bus, low to enable the data bus", 17 STBY (in) "High = power-down mode, low = normal operation mode", 18 REFSENSE (in) "Reference sense", 19 AGND (power) "Analog ground", 20 ~{876M} (in) "High = THS1030 mode, low = TLC876 mode (see section 4 for TLC876 mode)", 21 REFTS (in) "Reference top sense", 22 REFTF "Reference top decoupling", 23 MODE (in) "Mode input", 24 REFBF "Reference bottom decoupling", 25 REFBS (in) "Reference bottom sense", 26 VREF (io) "Internal and external reference", 27 AIN (in) "Analog input", 28 AVDD (power) "Analog supply"